# Altium footprint library VQFN20.PcbLib: 1 footprints
Each footprint in its own frame and in the unit in brackets; x right, y up, seen from the top. Pads: shape width x height; smd on the part's side, far side on the other; paste and mask are expansions set on the pad; w line width, h text height; cw(c..) or ccw(c..) is an arc to the next point about the centre after c.
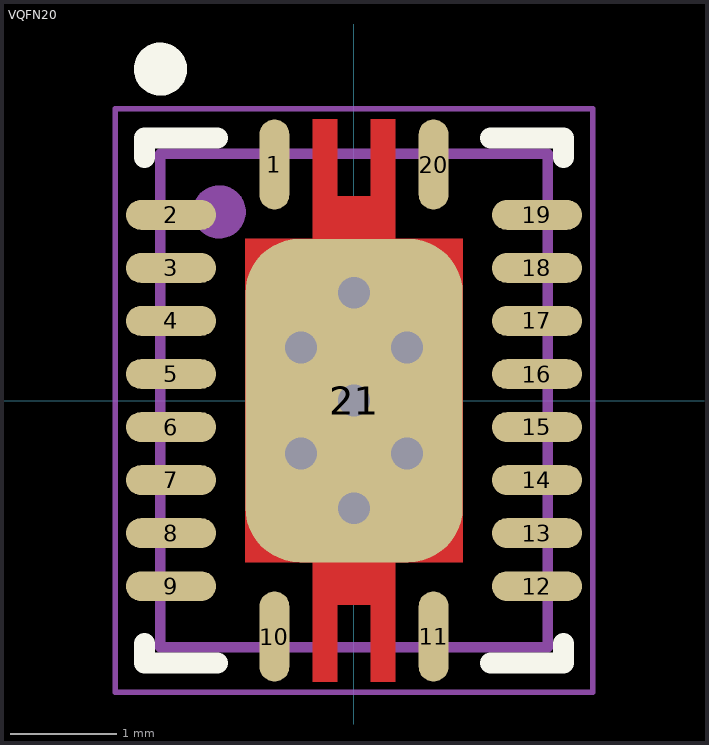
[diagram p0: the footprint, top view; thin cyan lines are the x and y axes]

## VQFN20 [mm]
pads (21):
  oval 0.28x0.85 smd paste-0.025 mask+0.05: 1(-0.75,2.225) 10(-0.75,-2.225) 11(0.75,-2.225) 20(0.75,2.225)
  oval 0.85x0.28 smd paste-0.025 mask+0.05: 2(-1.725,1.75) 3(-1.725,1.25) 4(-1.725,0.75) 5(-1.725,0.25) 6(-1.725,-0.25) 7(-1.725,-0.75) 8(-1.725,-1.25) 9(-1.725,-1.75) 12(1.725,-1.75) 13(1.725,-1.25) 14(1.725,-0.75) 15(1.725,-0.25) 16(1.725,0.25) 17(1.725,0.75) 18(1.725,1.25) 19(1.725,1.75)
  rrect50% 2.05x3.05 smd paste-3 mask-1: 21(0,0)
via 0.5,0.5 diameter 0.6 hole 0.3
via -0.5,0.5 diameter 0.6 hole 0.3
via 0,1.016 diameter 0.6 hole 0.3
via 0,-1.016 diameter 0.6 hole 0.3
via 0.5,-0.5 diameter 0.6 hole 0.3
via -0.5,-0.5 diameter 0.6 hole 0.3
via 0,0 diameter 0.6 hole 0.3
Top Layer:
  region: 0.16,2.65 0.16,1.925 -0.16,1.925 -0.16,2.65 -0.39,2.65 -0.39,1.525 -1.025,1.525 -1.025,-1.525 -0.39,-1.525 -0.39,-2.65 -0.16,-2.65 -0.16,-1.925 0.16,-1.925 0.16,-2.65 0.39,-2.65 0.39,-1.525 1.025,-1.525 1.025,1.525 0.39,1.525 0.39,2.65
Top Overlay:
  circle w0.25: c-1.825,3.125 r0.125
  lines w0.2: -1.975,-2.29 -1.975,-2.475 -1.29,-2.475 ; -1.975,2.29 -1.975,2.475 -1.29,2.475 ; 1.29,-2.475 1.975,-2.475 1.975,-2.29 ; 1.29,2.475 1.975,2.475 1.975,2.29
Top Paste:
  region: 0.15,1.47 0.15,0.15 0.97,0.15 0.97,1.47
  region: 0.97,-1.47 0.97,-0.15 0.15,-0.15 0.15,-1.47
  region: -0.15,-1.47 -0.15,-0.15 -0.97,-0.15 -0.97,-1.47
  region: -0.97,1.47 -0.97,0.15 -0.15,0.15 -0.15,1.47
  region: 0.39,-2.625 0.39,-1.725 0.16,-1.725 0.16,-2.625
  region: 0.16,2.625 0.16,1.725 0.39,1.725 0.39,2.625
  region: -0.16,-2.625 -0.16,-1.725 -0.39,-1.725 -0.39,-2.625
  region: -0.39,2.625 -0.39,1.725 -0.16,1.725 -0.16,2.625
Top Assembly:
  circle w0.3: c-1.27,1.778 r0.1
  lines w0.1: -1.825,-2.325 -1.825,2.325 1.825,2.325 1.825,-2.325 -1.825,-2.325
  text "'.Designator'" at -1.651,0 h0.3
Top Courtyard:
  lines w0.05: -2.25,-2.75 -2.25,2.75 2.25,2.75 2.25,-2.75 -2.25,-2.75
  lines w0.1: -0.5,0 0.5,0 ; 0,-0.5 0,0.5
3D body "User Library-20-VQFN (3_5x4_5)-2.STEP": height 0.85, standoff -0.05, extent -1.76,-2.26 1.76,2.26